# Altium schematic symbol library W25Q16JVUXIQ_TR.SchLib: 1 symbol
Pins are listed as number, name and electrical type; pins without a type are passive.

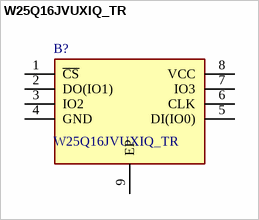
[diagram p0: symbol W25Q16JVUXIQ_TR]

## W25Q16JVUXIQ_TR
designator B?
NOR Flash spiFlash, 3V, 16M-bit, 4Kb Uniform Sector, DTR; Manufacturer_Name: Winbond; Manufacturer_Part_Number: W25Q16JVUXIQ TR; Geometry.Height: 0.6mm; Mouser Part Number: 454-W25Q16JVUXIQTR; Mouser Price/Stock: https://www.mouser.co.uk/ProductDetail/Winbond/W25Q16JVUXIQ-TR?qs=qSfuJ%252Bfl%2Fd7SDdIHLGOd1g%3D%3D; Datasheet Link: https://componentsearchengine.com/Datasheets/1/W25Q16JVUXIQ TR.pdf
footprint SON50P300X200X60-9N
pins: 1 ~{CS}, 2 DO(IO1), 3 IO2, 4 GND, 5 DI(IO0), 6 CLK, 7 IO3, 8 VCC, 9 EP